# Altium footprint library PCB - CAPACITOR - ALUMINIUM - CAP AL TH D8 L3.5 H12.5.PCBLIB: 1 footprints
Each footprint in its own frame and in the unit in brackets; x right, y up, seen from the top. Pads: shape width x height; smd on the part's side, far side on the other; paste and mask are expansions set on the pad; w line width, h text height; cw(c..) or ccw(c..) is an arc to the next point about the centre after c.
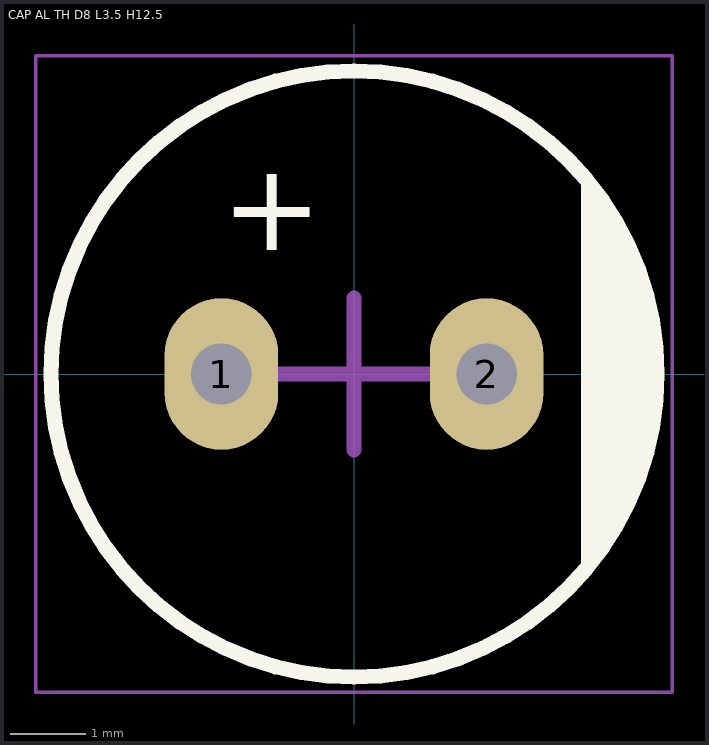
[diagram p0: the footprint, top view; thin cyan lines are the x and y axes]

## CAP AL TH D8 L3.5 H12.5 [mm] "8MM Diameter, 3.5MM Lead Spacing Aluminium Capacitor"
height 12.5
pads (2):
  oval 1.5x2 hole 0.8: 1(-1.75,0) 2(1.75,0)
Top Overlay:
  circle w0.2: c0,0 r4
  region: 3,2.5 3.5,2 4,0.5 4,-0.75 3.75,-1.5 3.25,-2.25 3,-2.75
  text "+" at -1.75,1.25 h2
Mechanical 13:
  circle w0.1: c0,0 r4
  lines w0.1: 3.1,-2.5 3.1,2.5
Mechanical 15:
  lines w0.05: -4.2,-4.2 4.2,-4.2 4.2,4.2 -4.2,4.2 -4.2,-4.2
  lines w0.2: -1,0 1,0 ; 0,-1 0,1
3D body "CAP ALTH D8 L3.5 H12.5.step": height 11.5, standoff -2.5, extent -4,-4 4,4